# Altium footprint library DS1040-02RT.PcbLib: 1 footprints
Each footprint in its own frame and in the unit in brackets; x right, y up, seen from the top. Pads: shape width x height; smd on the part's side, far side on the other; paste and mask are expansions set on the pad; w line width, h text height; cw(c..) or ccw(c..) is an arc to the next point about the centre after c.
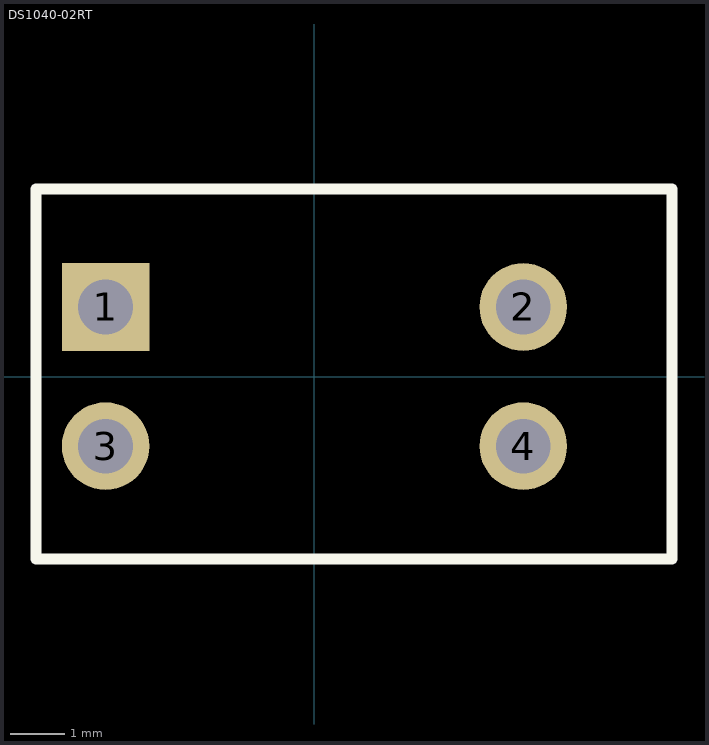
[diagram p0: the footprint, top view; thin cyan lines are the x and y axes]

## DS1040-02RT [mm]
pads (4):
  rect 1.6x1.6 hole 1: 1(-3.81,1.27)
  round 1.6 hole 1: 2(3.81,1.27) 3(-3.81,-1.27) 4(3.81,-1.27)
Top Overlay:
  lines w0.2: -5.083,-3.328 6.527,-3.328 6.527,3.422 -5.083,3.422 -5.083,-3.328
  text "." at -5.649,1.121 h3
Mechanical 13:
  text ".Designator" at -3.575,-4.593 h1.52
3D body "DS1040-02RT.STEP": height 8.8, standoff -3.85, extent -4.975,-3.225 6.425,3.315